# Altium schematic symbol library tp4056_shield_sch.SchLib: 1 symbol
Pins are listed as number, name and electrical type; pins without a type are passive.

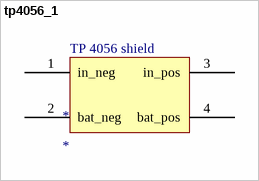
[diagram p0: symbol tp4056_1]

## tp4056_1
designator *
footprint tp4056pcb_1
pins: 1 in_neg, 2 bat_neg, 3 in_pos, 4 bat_pos
text: TP 4056 shield